# Altium footprint library temp.PcbLib: 7 footprints
Each footprint in its own frame and in the unit in brackets; x right, y up, seen from the top. Pads: shape width x height; smd on the part's side, far side on the other; paste and mask are expansions set on the pad; w line width, h text height; cw(c..) or ccw(c..) is an arc to the next point about the centre after c.
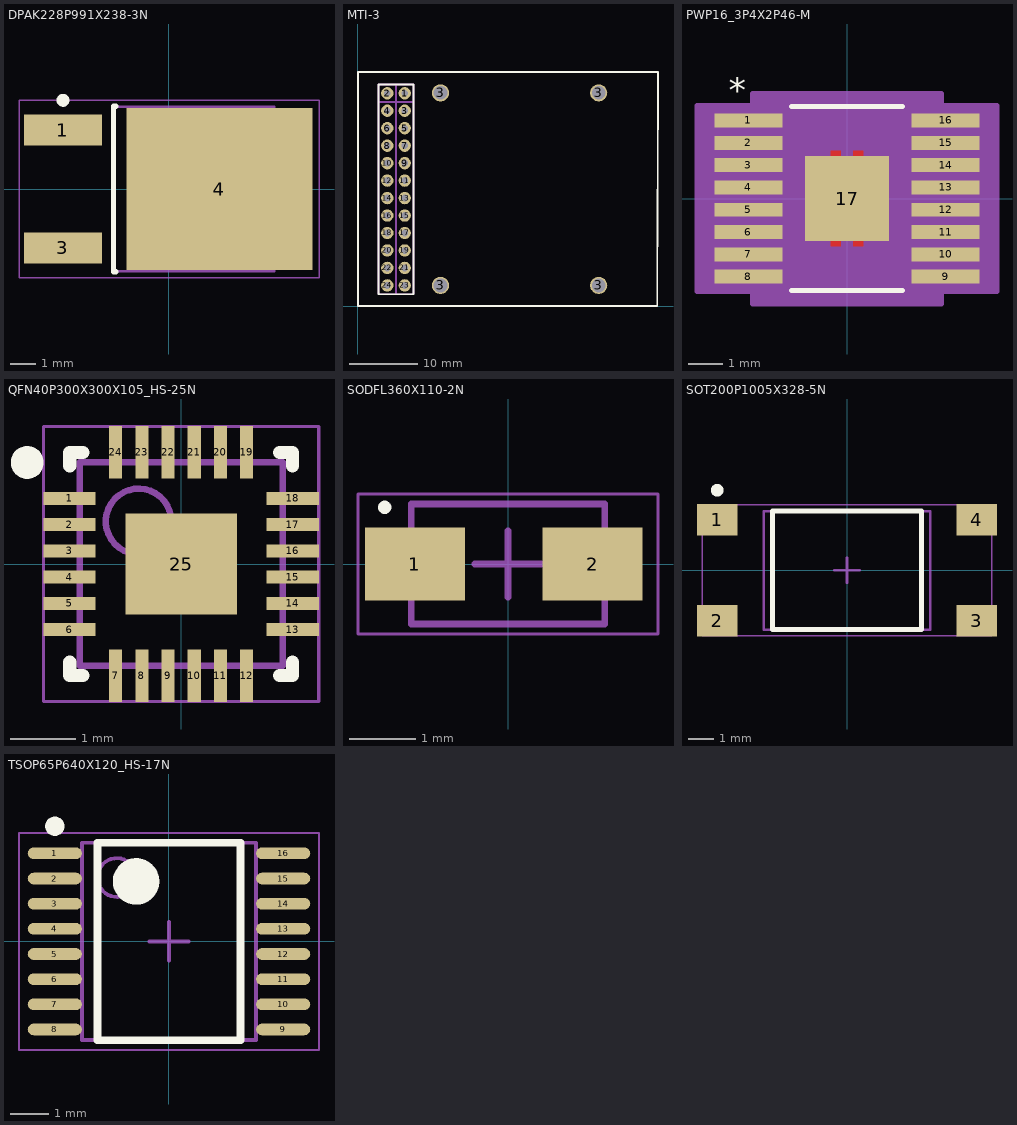
[diagram p0: the footprints below, top view; thin cyan lines are the x and y axes]

## DPAK228P991X238-3N [mm] "D-PAK, 3-Pads, Body 6.21x6.54mm (max), IPC Medium Density"
height 2.38
pads (3):
  rect 3x1.2 smd: 1(-4.1,2.28) 3(-4.1,-2.28)
  rect 7.2x6.25 smd: 4(1.95,0)
Top Overlay:
  circle w0.25: c-4.1,3.43 r0.125
  lines w0.2: -2.05,-3.2 -2.15,-3.2 -2.15,3.2 -2.05,3.2
Mechanical 13:
  lines w0.1: -2.15,-3.175 4.07,-3.175 4.07,3.175 -2.15,3.175 -2.15,-3.175
Mechanical 15:
  lines w0.05: -5.8,-3.425 5.8,-3.425 5.8,3.425 -5.8,3.425 -5.8,-3.425
  lines w0.1: -0.5,0 0.5,0 ; 0,-0.5 0,0.5
3D body "DPAK228P991X238-3N.step": height 2.51, standoff 0, extent -4.826,-3.175 5.079,3.175

## MTI-3 [mm] "PinHeader 2x12 TH Pitch 2.54mm"
height 9.5
pads (28):
  round 1.8 hole 1: 1(6.858,30.988) 2(4.318,30.988) 3(6.858,28.448) 4(4.318,28.448) 5(6.858,25.908) 6(4.318,25.908) 7(6.858,23.368) 8(4.318,23.368) 9(6.858,20.828) 10(4.318,20.828) 11(6.858,18.288) 12(4.318,18.288) 13(6.858,15.748) 14(4.318,15.748) 15(6.858,13.208) 16(4.318,13.208) 17(6.858,10.668) 18(4.318,10.668) 19(6.858,8.128) 20(4.318,8.128) 21(6.858,5.588) 22(4.318,5.588) 23(6.858,3.048) 24(4.318,3.048)
  round 2.5 hole 2: 3(12.061,3.048) 3(12.061,31.048) 3(35.061,3.048) 3(35.061,31.048)
Top Overlay:
  lines w0.254: 0.061,34.048 0.061,0.048 43.561,0.048 ; 0.061,34.084 43.688,34.084 43.562,0.084 ; 3.048,29.718 3.048,32.258 ; 3.048,32.258 3.048,1.778 5.588,1.778 8.128,1.778 8.128,32.258 5.588,32.258 3.048,32.258
Mechanical 3:
  lines w0.254: 8.128,29.718 5.588,29.718 ; 3.048,32.258 3.048,1.778 5.588,1.778 ; 3.048,32.258 5.588,32.258 ; 3.048,32.258 3.048,29.718 5.588,29.718 ; 5.588,1.778 8.128,1.778 8.128,32.258 5.588,32.258 ; 5.588,1.778 5.588,32.258 ; 5.588,1.778 5.588,32.258 ; 5.588,29.718 5.588,32.258
3D body "Pin Header 1x12 TH Pitch 2.54mm.stp": height 9.5, standoff -3.2, extent 5.588,1.778 8.128,32.258
3D body "Pin Header 1x12 TH Pitch 2.54mm.stp": height 9.5, standoff -3.2, extent 3.048,1.778 5.588,32.258

## PWP16_3P4X2P46-M [mil]
pads (17):
  rect 78x16 smd paste+0 mask+0: 1(-113,89.57) 2(-113,63.98) 3(-113,38.39) 4(-113,12.8) 5(-113,-12.8) 6(-113,-38.39) 7(-113,-63.98) 8(-113,-89.57) 9(113,-89.57) 10(113,-63.98) 11(113,-38.39) 12(113,-12.8) 13(113,12.8) 14(113,38.39) 15(113,63.98) 16(113,89.57)
  rect 96.85x97.64 smd paste+0 mask+0: 17(0,0)
Top Layer:
  region: 0,48.82
  region: 0,-48.82
  region: 18.7,48.82 6.89,48.82 6.89,54.72 18.7,54.72
  region: -18.7,48.82 -6.89,48.82 -6.89,54.72 -18.7,54.72
  region: -18.7,-48.82 -6.89,-48.82 -6.89,-54.72 -18.7,-54.72
  region: 18.7,-48.82 6.89,-48.82 6.89,-54.72 18.7,-54.72
Top Overlay:
  lines w6: -63.57,-105.5 63.57,-105.5 ; -63.57,105.5 63.57,105.5
  text "*" at -135.5,100.57 h50
Top Paste:
  region: 48.43,48.82 -48.43,48.82 -48.43,-48.82 48.43,-48.82
Top Solder:
  region: 0,48.82
  region: 0,-48.82
  region: 18.7,48.82 6.89,48.82 6.89,54.72 18.7,54.72
  region: -18.7,48.82 -6.89,48.82 -6.89,54.72 -18.7,54.72
  region: -18.7,-48.82 -6.89,-48.82 -6.89,-54.72 -18.7,-54.72
  region: 18.7,-48.82 6.89,-48.82 6.89,-54.72 18.7,-54.72
Mechanical 13:
  lines w0: -12,100.5 ccw(c0,100.5) 12,100.5
  lines w1: -130,-95.57 -130,-83.57 -88.5,-83.57 -88.5,-95.57 -130,-95.57 ; -130,-69.98 -130,-57.98 -88.5,-57.98 -88.5,-69.98 -130,-69.98 ; -130,-44.39 -130,-32.39 -88.5,-32.39 -88.5,-44.39 -130,-44.39 ; -130,-18.8 -130,-6.8 -88.5,-6.8 -88.5,-18.8 -130,-18.8 ; -130,6.8 -130,18.8 -88.5,18.8 -88.5,6.8 -130,6.8 ; -130,32.39 -130,44.39 -88.5,44.39 -88.5,32.39 -130,32.39 ; -130,57.98 -130,69.98 -88.5,69.98 -88.5,57.98 -130,57.98 ; -130,83.57 -130,95.57 -88.5,95.57 -88.5,83.57 -130,83.57 ; -88.5,-100.5 88.5,-100.5 88.5,100.5 -88.5,100.5 -88.5,-100.5 ; 88.5,-95.57 88.5,-83.57 130,-83.57 130,-95.57 88.5,-95.57 ; 88.5,-69.98 88.5,-57.98 130,-57.98 130,-69.98 88.5,-69.98 ; 88.5,-44.39 88.5,-32.39 130,-32.39 130,-44.39 88.5,-44.39 ; 88.5,-18.8 88.5,-6.8 130,-6.8 130,-18.8 88.5,-18.8 ; 88.5,6.8 88.5,18.8 130,18.8 130,6.8 88.5,6.8 ; 88.5,32.39 88.5,44.39 130,44.39 130,32.39 88.5,32.39 ; 88.5,57.98 88.5,69.98 130,69.98 130,57.98 88.5,57.98 ; 88.5,83.57 88.5,95.57 130,95.57 130,83.57 88.5,83.57
  text "*" at -91,55.57 h50
Mechanical 15:
  region: -108.5,-106.36 -172,-106.36 -172,106.36 -108.5,106.36 -108.5,120.5 108.5,120.5 108.5,106.36 172,106.36 172,-106.36 108.5,-106.36 108.5,-120.5 -108.5,-120.5
  lines w6: -172,-106.36 -172,106.36 -108.5,106.36 -108.5,120.5 108.5,120.5 108.5,106.36 172,106.36 172,-106.36 108.5,-106.36 108.5,-120.5 -108.5,-120.5 -108.5,-106.36 -172,-106.36
3D body "PWP16_3P4X2P46-M.stp": height 67.09, standoff 0, extent -129.99,-100.5 130.01,100.52
3D body: height 10, standoff 0, extent 0,0 10,10

## QFN40P300X300X105_HS-25N [mm] "QFN, 24-Leads, Body 3.00x3.00mm, Pitch 0.40mm, Thermal Pad 1.70x1.54mm, IPC Medium Density"
height 1.05
pads (25):
  rect 0.8x0.2 smd: 1(-1.704,1) 2(-1.704,0.6) 3(-1.704,0.2) 4(-1.704,-0.2) 5(-1.704,-0.6) 6(-1.704,-1) 13(1.704,-1) 14(1.704,-0.6) 15(1.704,-0.2) 16(1.704,0.2) 17(1.704,0.6) 18(1.704,1)
  rect 0.2x0.8 smd: 7(-1,-1.704) 8(-0.6,-1.704) 9(-0.2,-1.704) 10(0.2,-1.704) 11(0.6,-1.704) 12(1,-1.704) 19(1,1.704) 20(0.6,1.704) 21(0.2,1.704) 22(-0.2,1.704) 23(-0.6,1.704) 24(-1,1.704)
  rect 1.7x1.54 smd: 25(0,0)
Top Overlay:
  circle w0.25: c-2.35,1.55 r0.125
  lines w0.2: -1.7,-1.5 -1.7,-1.7 -1.5,-1.7 ; -1.7,1.5 -1.7,1.7 -1.5,1.7 ; 1.5,-1.7 1.7,-1.7 1.7,-1.5 ; 1.5,1.7 1.7,1.7 1.7,1.5
Mechanical 13:
  circle w0.1: c-0.65,0.65 r0.5
  lines w0.1: -1.55,-1.55 1.55,-1.55 1.55,1.55 -1.55,1.55 -1.55,-1.55
Mechanical 15:
  lines w0.05: -2.1,-2.1 2.1,-2.1 2.1,2.1 -2.1,2.1 -2.1,-2.1
  lines w0.1: -0.5,0 0.5,0 ; 0,-0.5 0,0.5
3D body "QFN40P300X300X105_HS-25N.step": height 1.05, standoff 0, extent -1.79,-1.79 1.79,1.79

## SODFL360X110-2N [mm] "SODFL, 2-Leads, Body 1.65x3.60mm, IPC Medium Density"
height 1.1
pads (2):
  rect 1.5x1.1 smd: 1(-1.397,0) 2(1.27,0)
Top Overlay:
  circle w0.1: c-1.85,0.85 r0.05
Mechanical 13:
  lines w0.1: -1.45,-0.9 1.45,-0.9 1.45,0.9 -1.45,0.9 -1.45,-0.9
Mechanical 15:
  lines w0.05: -2.25,-1.05 2.25,-1.05 2.25,1.05 -2.25,1.05 -2.25,-1.05
  lines w0.1: -0.5,0 0.5,0 ; 0,-0.5 0,0.5
3D body "SODFL360X110-2N.step": height 1.1, standoff 0, extent -1.8,-0.9 1.8,0.9

## SOT200P1005X328-5N [mm] "SOT23, 5-Leads, Body 4.60x10.05mm, Pitch 2.00mm, IPC Medium Density"
height 3.28
pads (4):
  rect 1.6x1.25 smd: 1(-5.15,2) 2(-5.15,-2) 3(5.15,-2) 4(5.15,2)
Top Overlay:
  circle w0.25: c-5.15,3.175 r0.125
  lines w0.2: -2.95,-2.35 -2.95,2.35 2.95,2.35 2.95,-2.35 -2.95,-2.35
Mechanical 13:
  lines w0.1: -3.3,-2.35 3.3,-2.35 3.3,2.35 -3.3,2.35 -3.3,-2.35
Mechanical 15:
  lines w0.05: -5.75,-2.6 5.75,-2.6 5.75,2.6 -5.75,2.6 -5.75,-2.6
  lines w0.1: -0.5,0 0.5,0 ; 0,-0.5 0,0.5
3D body "SOT200P1005X328-5N.step": height 3.28, standoff 0, extent -5.15,-2.625 5.15,2.625

## TSOP65P640X120_HS-17N [mm] "TSOP, 16-Leads, Body 5.00x4.40mm, Pitch 0.65mm, Thermal Pad 0.00x0.00mm, IPC Medium Density"
height 1.2
pads (16):
  oval 1.4x0.3 smd: 1(-2.95,2.275) 2(-2.95,1.625) 3(-2.95,0.975) 4(-2.95,0.325) 5(-2.95,-0.325) 6(-2.95,-0.975) 7(-2.95,-1.625) 8(-2.95,-2.275) 9(2.95,-2.275) 10(2.95,-1.625) 11(2.95,-0.975) 12(2.95,-0.325) 13(2.95,0.325) 14(2.95,0.975) 15(2.95,1.625) 16(2.95,2.275)
Top Overlay:
  circle w0.25: c-2.95,2.975 r0.125
  circle w0.6: c-0.85,1.55 r0.3
  lines w0.2: -1.85,-2.55 -1.85,2.55 1.85,2.55 1.85,-2.55 -1.85,-2.55
Mechanical 13:
  circle w0.1: c-1.35,1.65 r0.5
  lines w0.1: -2.25,-2.55 -2.25,2.55 2.25,2.55 2.25,-2.55 -2.25,-2.55
Mechanical 15:
  lines w0.05: -3.875,-2.8 -3.875,2.8 3.875,2.8 3.875,-2.8 -3.875,-2.8
  lines w0.1: -0.5,0 0.5,0 ; 0,-0.5 0,0.5
3D body "TSOP65P640X120_HS-17N.step": height 1.2, standoff 0, extent -3.2,-2.55 3.2,2.55